# Altium schematic symbol library esp8266modules.SCHLIB: 24 symbols
Pins are listed as number, name and electrical type; pins without a type are passive.

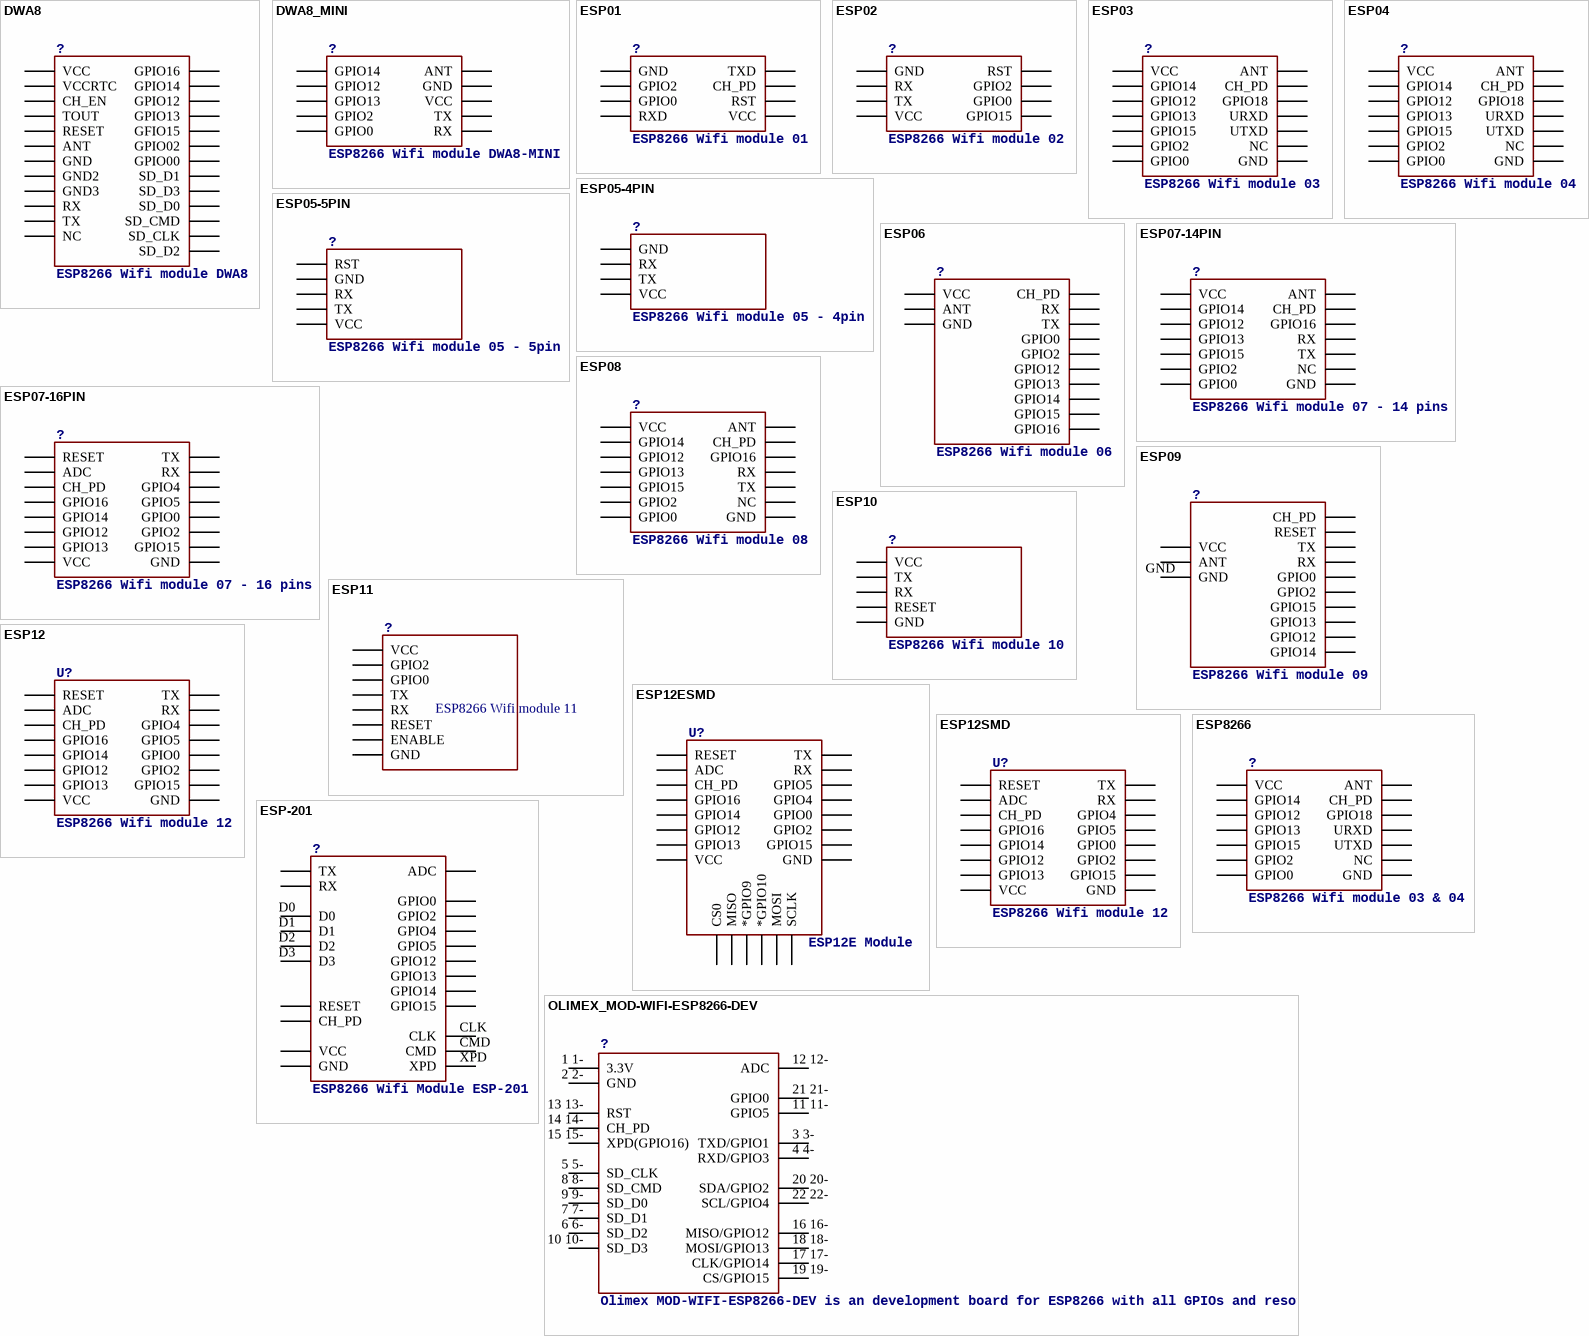
[diagram p0: symbols DWA8 to OLIMEX_MOD-WIFI-ESP8266-DEV]

## DWA8
designator ?, comment ESP8266 Wifi module DWA8
footprint DWA8
pins: ANT, CH_EN, GND, GND1 GND2, GND2 GND3, GPIO0 GPIO00, GPIO2 GPIO02, GPIO12, GPIO13, GPIO14, GPIO15 GFIO15, GPIO16, NC, NC1 P$13, RESET, RX, SD_CLK, SD_CMD, SD_D0, SD_D1, SD_D2, SD_D3, TOUT, TX, VCC, VCCRTC

## DWA8_MINI
designator ?, comment ESP8266 Wifi module DWA8-MINI
footprint DWA8_MINI
pins: ANT, GND, GPIO0, GPIO2, GPIO12, GPIO13, GPIO14, RX, TX, VCC

## ESP01
designator ?, comment ESP8266 Wifi module 01
footprint ESP01
pins: CH_PD, GND, GPIO0, GPIO2, RST, RX RXD, TX TXD, VCC

## ESP02
designator ?, comment ESP8266 Wifi module 02
footprint ESP02
pins: GND, GPIO0, GPIO2, GPIO15/POWERDOWN GPIO15, RST, RX, TX, VCC

## ESP03
designator ?, comment ESP8266 Wifi module 03
PITCH: 0.078" / 2 mm; DIMENSIONS: 17.3 x 12.1 mm; PINS: 14
footprint ESP03
pins: ANT, CH_PD, GND, GPIO0, GPIO2, GPIO12, GPIO13, GPIO14, GPIO15, GPIO18, NC, URXD, UTXD, VCC

## ESP04
designator ?, comment ESP8266 Wifi module 04
PITCH: 0.078" / 2 mm; DIMENSIONS: 14.7 x 12.1 mm; PINS: 14
footprint ESP04
pins: ANT, CH_PD, GND, GPIO0, GPIO2, GPIO12, GPIO13, GPIO14, GPIO15, GPIO18, NC, URXD, UTXD, VCC

## ESP05-4PIN
designator ?, comment ESP8266 Wifi module 05 - 4pin
footprint ESP05-4PIN
pins: GND, RX, TX, VCC

## ESP05-5PIN
designator ?, comment ESP8266 Wifi module 05 - 5pin
footprint ESP05-5PIN
pins: GND, RST, RX, TX, VCC

## ESP06
designator ?, comment ESP8266 Wifi module 06
footprint ESP06
pins: ANT, CH_PD, GND, GND1 GND2, GND2 GND3, GND3 GND4, GND4 GND5, GND5 GND6, GND6 GND7, GND7 GND8, GPIO0, GPIO2, GPIO12, GPIO13, GPIO14, GPIO15, GPIO16, RX, TX, VCC

## ESP07-14PIN
designator ?, comment ESP8266 Wifi module 07 - 14 pins
PITCH: 0.078" / 2 mm; DIMENSIONS: 20.0 x 16.0 mm; PINS: 14
footprint ESP07-14PIN
pins: ANT, CH_PD, GND, GPIO0, GPIO2, GPIO12, GPIO13, GPIO14, GPIO15, GPIO16, NC, RX, TX, VCC

## ESP07-16PIN
designator ?, comment ESP8266 Wifi module 07 - 16 pins
PITCH: 0.078" / 2 mm; DIMENSIONS: 22.0 x 16.0 mm; PINS: 16
footprint ESP07-16PIN
pins: ADC, CH_PD, GND, GPIO0, GPIO2, GPIO4, GPIO5, GPIO12, GPIO13, GPIO14, GPIO15, GPIO16, REST RESET, RX, TX, VCC

## ESP08
designator ?, comment ESP8266 Wifi module 08
PITCH: 0.078" / 2 mm; DIMENSIONS: 17.0 x 16.0 mm; PINS: 14
footprint ESP08
pins: ANT, CH_PD, GND, GPIO0, GPIO2, GPIO12, GPIO13, GPIO14, GPIO15, GPIO16, NC, RX, TX, VCC

## ESP09
designator ?, comment ESP8266 Wifi module 09
footprint ESP09
pins: ANT, CH_PD, GND, GND1, GND2, GND3, GND4, GND5, GND6, GND7, GPIO0, GPIO02 GPIO2, GPIO12, GPIO13, GPIO14, GPIO15, RESET, RX, TX, VCC

## ESP10
designator ?, comment ESP8266 Wifi module 10
footprint ESP10
pins: GND, RESET, RX, TX, VCC

## ESP11
designator ?, comment ESP8266 Wifi module 11
footprint ESP11
pins: P$1 GND, P$2 ENABLE, P$3 RESET, P$4 RX, P$5 TX, P$6 GPIO0, P$7 GPIO2, P$8 VCC

## ESP12
designator U?, comment ESP8266 Wifi module 12
footprint ESP12
pins: ADC, CH_PD, GND, GPIO0, GPIO2, GPIO4, GPIO5, GPIO12, GPIO13, GPIO14, GPIO15, GPIO16, RESET, RX, TX, VCC

## ESP12ESMD
designator U?, comment ESP12E Module
footprint ESP12E-SMD
pins: ADC, CH_PD, CS0, GND, GPIO0, GPIO2, GPIO4, GPIO5, GPIO9 *GPIO9, GPIO10 *GPIO10, GPIO12, GPIO13, GPIO14, GPIO15, GPIO16, MISO, MOSI, RESET, RXD0 RX, SCLK, TXD0 TX, VCC

## ESP12SMD
designator U?, comment ESP8266 Wifi module 12
footprint ESP12-SMD
pins: ADC, CH_PD, GND, GPIO0, GPIO2, GPIO4, GPIO5, GPIO12, GPIO13, GPIO14, GPIO15, GPIO16, RESET, RXD0 RX, TXD0 TX, VCC

## ESP8266
designator ?, comment ESP8266 Wifi module 03 & 04
footprint ESP03
pins: ANT, CH_PD, GND, GPIO0, GPIO2, GPIO12, GPIO13, GPIO14, GPIO15, GPIO18, NC, URXD, UTXD, VCC

## ESP-201
designator ?, comment ESP8266 Wifi Module ESP-201
PITCH: 0.1" / 2.54 mm; DIMENSIONS: 25 x 35 mm; PINS: 26
footprint ESP-201
pins: 3V3 3V3_2 3V3_3 VCC, ADC, CH_PD, CLK, CMD, D0, D1, D2, D3, GND GND_2 GND_3 GND, GPIO0, GPIO2, GPIO4, GPIO5, GPIO12, GPIO13, GPIO14, GPIO15, RST RESET, RX, TX, XPD

## OLIMEX_MOD-WIFI-ESP8266-DEV
designator ?, comment Olimex MOD-WIFI-ESP8266-DEV is an development board for ESP8266 with all GPIOs and resources exposed. It can be soldered to PCB or used with breadboard. Small U.FL connector is provided for external antenna connection.
PITCH: 0.1" / 2.54 mm; DIMENSION: 0.9 x 1.315"; DIMENSIONS: 22.85 x 33.35 mm; PINS: 22
footprint OLIMEX_MOD-WIFI-ESP8266-DEV
pins: 1 1- 3.3V (power), 2 2- GND (power), 3 3- TXD/GPIO1, 4 4- RXD/GPIO3, 5 5- SD_CLK, 6 6- SD_D2, 7 7- SD_D1, 8 8- SD_CMD, 9 9- SD_D0, 10 10- SD_D3, 11 11- GPIO5, 12 12- ADC, 13 13- RST, 14 14- CH_PD, 15 15- XPD(GPIO16), 16 16- MISO/GPIO12, 17 17- CLK/GPIO14, 18 18- MOSI/GPIO13, 19 19- CS/GPIO15, 20 20- SDA/GPIO2, 21 21- GPIO0, 22 22- SCL/GPIO4

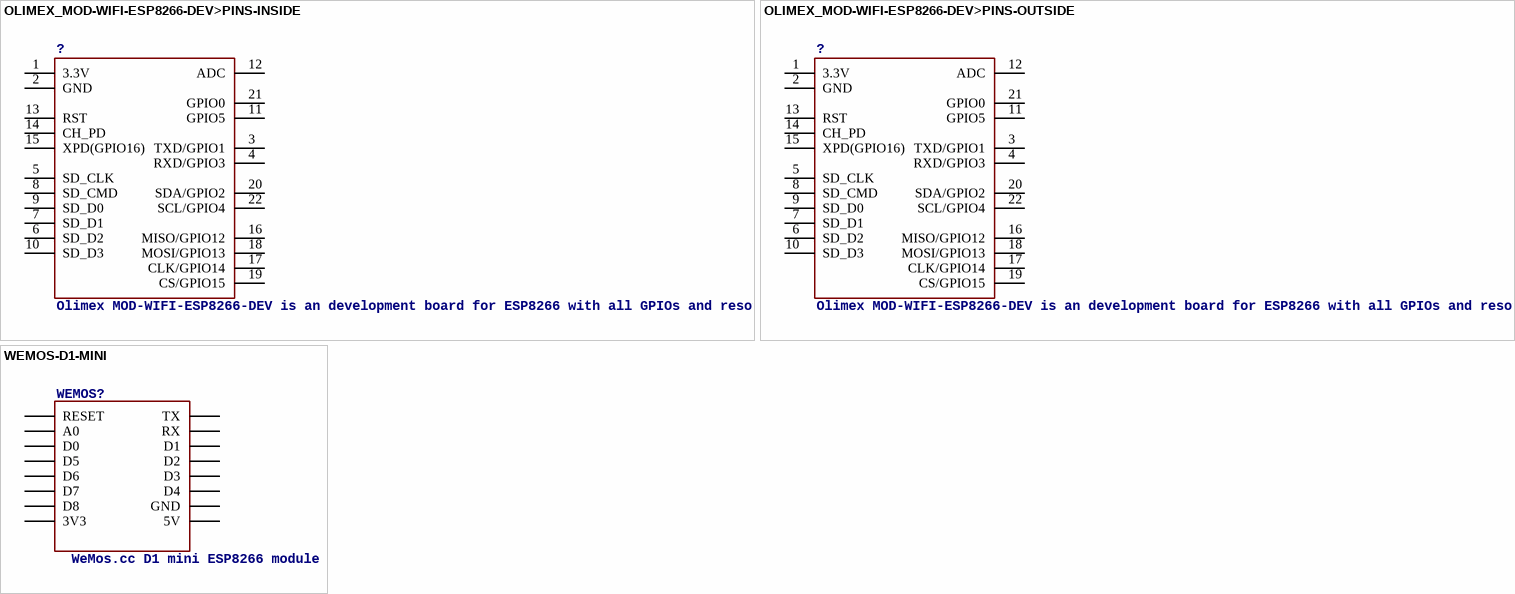
[diagram p1: symbols OLIMEX_MOD-WIFI-ESP8266-DEV>PINS-INSIDE to WEMOS-D1-MINI]

## OLIMEX_MOD-WIFI-ESP8266-DEV>PINS-INSIDE
designator ?, comment Olimex MOD-WIFI-ESP8266-DEV is an development board for ESP8266 with all GPIOs and resources exposed. It can be soldered to PCB or used with breadboard. Small U.FL connector is provided for external antenna connection.
footprint OLIMEX_MOD-WIFI-ESP8266-DEV-PINS-INSIDE
pins: 1 3.3V (power), 2 GND (power), 3 TXD/GPIO1, 4 RXD/GPIO3, 5 SD_CLK, 6 SD_D2, 7 SD_D1, 8 SD_CMD, 9 SD_D0, 10 SD_D3, 11 GPIO5, 12 ADC, 13 RST, 14 CH_PD, 15 XPD(GPIO16), 16 MISO/GPIO12, 17 CLK/GPIO14, 18 MOSI/GPIO13, 19 CS/GPIO15, 20 SDA/GPIO2, 21 GPIO0, 22 SCL/GPIO4

## OLIMEX_MOD-WIFI-ESP8266-DEV>PINS-OUTSIDE
designator ?, comment Olimex MOD-WIFI-ESP8266-DEV is an development board for ESP8266 with all GPIOs and resources exposed. It can be soldered to PCB or used with breadboard. Small U.FL connector is provided for external antenna connection.
footprint OLIMEX_MOD-WIFI-ESP8266-DEV-PINS-OUTSIDE
pins: 1 3.3V (power), 2 GND (power), 3 TXD/GPIO1, 4 RXD/GPIO3, 5 SD_CLK, 6 SD_D2, 7 SD_D1, 8 SD_CMD, 9 SD_D0, 10 SD_D3, 11 GPIO5, 12 ADC, 13 RST, 14 CH_PD, 15 XPD(GPIO16), 16 MISO/GPIO12, 17 CLK/GPIO14, 18 MOSI/GPIO13, 19 CS/GPIO15, 20 SDA/GPIO2, 21 GPIO0, 22 SCL/GPIO4

## WEMOS-D1-MINI
designator WEMOS?, comment WeMos.cc D1 mini ESP8266 module
footprint WEMOS-D1-MINI
pins: 3V3, 5V, A0, D0, D1, D2, D3, D4, D5, D6, D7, D8, GND, RESET, RX, TX